# EAGLE library part RPI-40PIN (library RPiBreakout)
40-pin socket for Raspberry Pi v2 See link for pinout: Click Here <http://www.rs-online.com/designspark/electronics/eng/blog/introducing-the-raspberry-pi-b-plus>
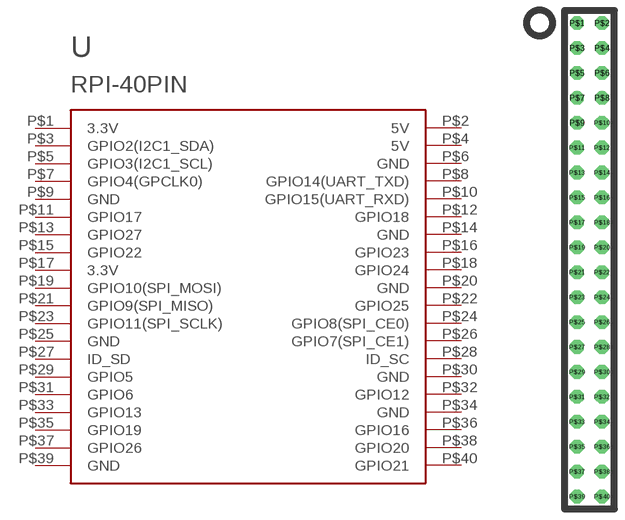
[diagram p0: symbol with the pads of RPI-40PIN; footprint RPI-40PIN]

Designator prefix -

## RPI-40PIN  [RPI-40PIN]
P$1  3.3V  pwr
P$2  5V  pwr
P$3  GPIO2(I2C1_SDA)
P$4  5V  pwr
P$5  GPIO3(I2C1_SCL)
P$6  GND  pwr
P$7  GPIO4(GPCLK0)
P$8  GPIO14(UART_TXD)
P$9  GND  pwr
P$10  GPIO15(UART_RXD)
P$11  GPIO17
P$12  GPIO18
P$13  GPIO27
P$14  GND  pwr
P$15  GPIO22
P$16  GPIO23
P$17  3.3V  pwr
P$18  GPIO24
P$19  GPIO10(SPI_MOSI)
P$20  GND  pwr
P$21  GPIO9(SPI_MISO)
P$22  GPIO25
P$23  GPIO11(SPI_SCLK)
P$24  GPIO8(SPI_CE0)
P$25  GND  pwr
P$26  GPIO7(SPI_CE1)
P$27  ID_SD  nc
P$28  ID_SC  nc
P$29  GPIO5
P$30  GND  pwr
P$31  GPIO6
P$32  GPIO12
P$33  GPIO13
P$34  GND  pwr
P$35  GPIO19
P$36  GPIO16
P$37  GPIO26
P$38  GPIO20
P$39  GND  pwr
P$40  GPIO21

## Footprint RPI-40PIN (pad centres in mm)
40-pin socket for Raspberry Pi v2 See link for pinout: Click Here <http://www.rs-online.com/designspark/electronics/eng/blog/introducing-the-raspberry-pi-b-plus>
drill 1.02 pad 1.93 octagon: P$1 -1.77,33.63; P$2 1.77,33.63; P$3 -1.77,30.09; P$4 1.77,30.09; P$5 -1.77,26.55; P$6 1.77,26.55; P$7 -1.77,23.01; P$8 1.77,23.01; P$9 -1.77,19.47; P$10 1.77,19.47; P$11 -1.77,15.93; P$12 1.77,15.93; P$13 -1.77,12.39; P$14 1.77,12.39; P$15 -1.77,8.85; P$16 1.77,8.85; P$17 -1.77,5.31; P$18 1.77,5.31; P$19 -1.77,1.77; P$20 1.77,1.77; P$21 -1.77,-1.77; P$22 1.77,-1.77; P$23 -1.77,-5.31; P$24 1.77,-5.31; P$25 -1.77,-8.85; P$26 1.77,-8.85; P$27 -1.77,-12.39; P$28 1.77,-12.39; P$29 -1.77,-15.93; P$30 1.77,-15.93; P$31 -1.77,-19.47; P$32 1.77,-19.47; P$33 -1.77,-23.01; P$34 1.77,-23.01; P$35 -1.77,-26.55; P$36 1.77,-26.55; P$37 -1.77,-30.09; P$38 1.77,-30.09; P$39 -1.77,-33.63; P$40 1.77,-33.63